# Altium footprint library CREE LEDS.PcbLib: 2 footprints
Each footprint in its own frame and in the unit in brackets; x right, y up, seen from the top. Pads: shape width x height; smd on the part's side, far side on the other; paste and mask are expansions set on the pad; w line width, h text height; cw(c..) or ccw(c..) is an arc to the next point about the centre after c.
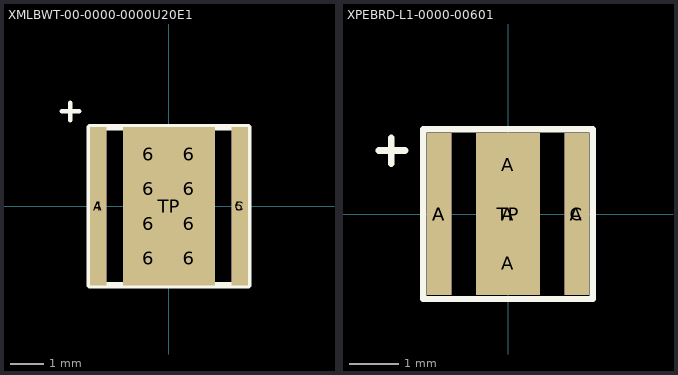
[diagram p0: the footprints below, top view; thin cyan lines are the x and y axes]

## XMLBWT-00-0000-0000U20E1 [mm] "LED Lighting XLamp® XM-L2 White, Cool 6500K 2.85V 700mA 125° 2-SMD, No Lead, Exposed Pad"
pads (13):
  rect 0.5x4.78 on Mech1 mask+0.14: 4(-2.14,0) 5(2.14,0)
  rect 0.97x0.8 on Mech1 mask+0.14: 6(-0.61,-1.575) 6(-0.61,-0.525) 6(-0.61,0.525) 6(-0.61,1.575) 6(0.61,-1.575) 6(0.61,-0.525) 6(0.61,0.525) 6(0.61,1.575)
  rect 0.5x4.78 smd mask+0.14: A(-2.14,0) C(2.14,0)
  rect 2.78x4.78 smd mask+0.14: TP(0,0)
Top Overlay:
  lines w0.14: -3.239,2.87 -2.705,2.87 ; -2.985,2.6 -2.985,3.124
  lines w0.2: -2.39,-2.39 -2.39,2.39 2.39,2.39 2.39,-2.39 -2.39,-2.39
Top Solder:
  circle w0.48: c-0.051,3.226 r0.203
3D body "User Library-CREE XMLAWT-00-0000-0000T6051 LED.STEP": height 3, standoff 0.01, extent -2.5,-2.5 2.5,2.5

## XPEBRD-L1-0000-00601 [mm]
pads (8):
  rect 0.5x3.3 smd mask+0.12: A(-1.4,0)
  rect 0.5x3.3 on Mech1 mask+0.14: A(-1.4,0) A(1.4,0)
  rect 1.01x0.75 on Mech1 mask+0.14: A(0,-1) A(0,0) A(0,1)
  rect 0.5x3.3 smd mask+0.14: C(1.4,0)
  rect 1.3x3.3 smd mask+0.14: TP(0,0)
Top Overlay:
  lines w0.127: -1.725,-1.725 -1.725,1.725 1.725,1.725 1.725,-1.725 -1.725,-1.725
  lines w0.14: -2.629,1.295 -2.095,1.295 ; -2.375,1.025 -2.375,1.549
Top Solder:
  circle w0.48: c0.025,2.54 r0.203
Mechanical 1:
  text "STENCIL" at -1.219,-2.565 h0.4
3D body "XPEBRD-L1-0000-00601.stp": height 2.27, standoff 0.01, extent -1.725,-1.725 1.725,1.725